# EAGLE library part 74HC595 (library ZiwiskyLib)
8-bit shift register with output latch
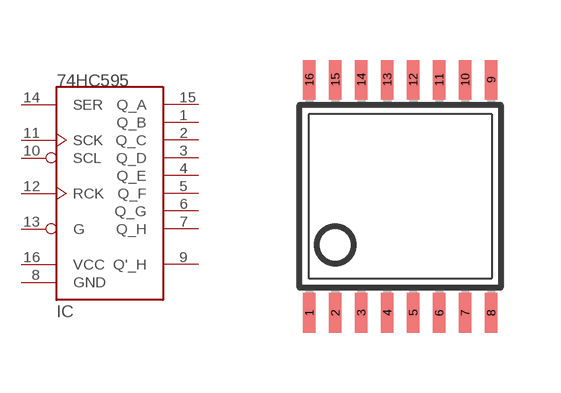
[diagram p0: symbol with the pads of TSSOP16; footprint TSSOP16]

Designator prefix IC

## 74HC595  [TSSOP16]
1  Q_B
2  Q_C
3  Q_D
4  Q_E
5  Q_F
6  Q_G
7  Q_H
8  GND  pwr
9  Q'_H
10  SCL
11  SCK
12  RCK
13  G
14  SER
15  Q_A
16  VCC  pwr

## Footprint TSSOP16 (pad centres in mm)
Thin Shrink Small Outline Plastic TSSOP16
smd 0.305 x 0.991: 1 -2.275,-2.918; 2 -1.625,-2.918; 3 -0.975,-2.918; 4 -0.325,-2.918; 5 0.325,-2.918; 6 0.975,-2.918; 7 1.625,-2.918; 8 2.275,-2.918; 9 2.275,2.918; 10 1.625,2.918; 11 0.975,2.918; 12 0.325,2.918; 13 -0.325,2.918; 14 -0.975,2.918; 15 -1.625,2.918; 16 -2.275,2.918